# Altium footprint library MSK12C02.PcbLib: 1 footprints
Each footprint in its own frame and in the unit in brackets; x right, y up, seen from the top. Pads: shape width x height; smd on the part's side, far side on the other; paste and mask are expansions set on the pad; w line width, h text height; cw(c..) or ccw(c..) is an arc to the next point about the centre after c.
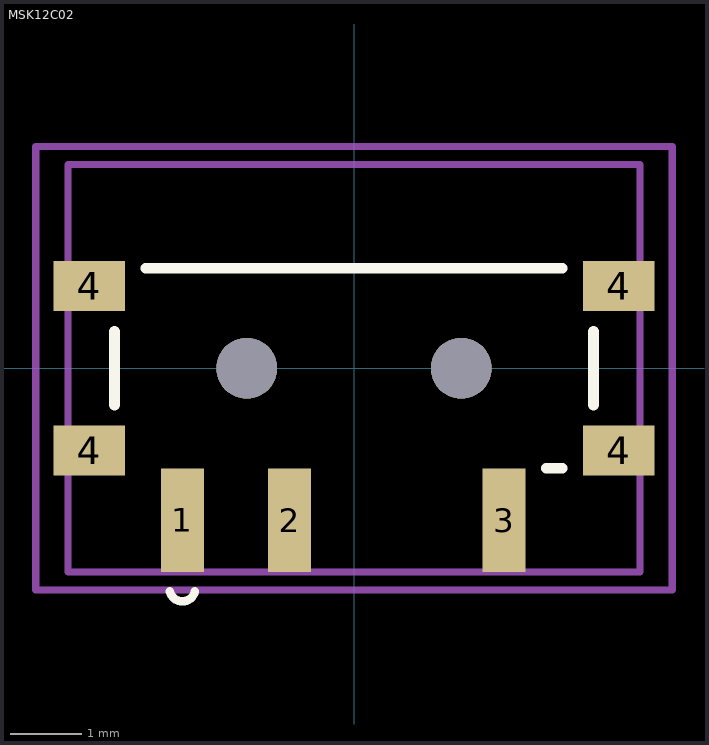
[diagram p0: the footprint, top view; thin cyan lines are the x and y axes]

## MSK12C02 [mm] "Shou Han MSK12C02, SPDT slide switch, SMD, 8.0 x 2.8 x 1.4 mm, 3 signal + 4 shell tabs"
height 1.4
pads (9):
  rect 0.6x1.45 smd: 1(-2.4,-2.125) 2(-0.9,-2.125) 3(2.1,-2.125)
  rect 1x0.7 smd: 4(-3.7,-1.15) 4(-3.7,1.15) 4(3.7,-1.15) 4(3.7,1.15)
  round 0.85 hole 0.85 unplated: ""(-1.5,0) ""(1.5,0)
Top Overlay:
  lines w0.12: -2.575,-3.122 ccw(c-2.4,-3.08) -2.225,-3.122
  lines w0.15: -3.35,-0.513 -3.35,0.513 ; -2.913,1.4 2.913,1.4 ; 2.687,-1.4 2.913,-1.4 ; 3.35,-0.513 3.35,0.513
Mechanical 13:
  lines w0.1: -4,-2.85 4,-2.85 4,2.85 -4,2.85 -4,-2.85
Mechanical 15:
  lines w0.1: -4.45,-3.1 4.45,-3.1 4.45,3.1 -4.45,3.1 -4.45,-3.1
3D body "MSK12C02.step": height 1.4, standoff 0, extent -4.2,-2.85 4.2,2.85